# Altium schematic symbol library Timer.SchLib: 67 symbols
Pins are listed as number, name and electrical type; pins without a type are passive.

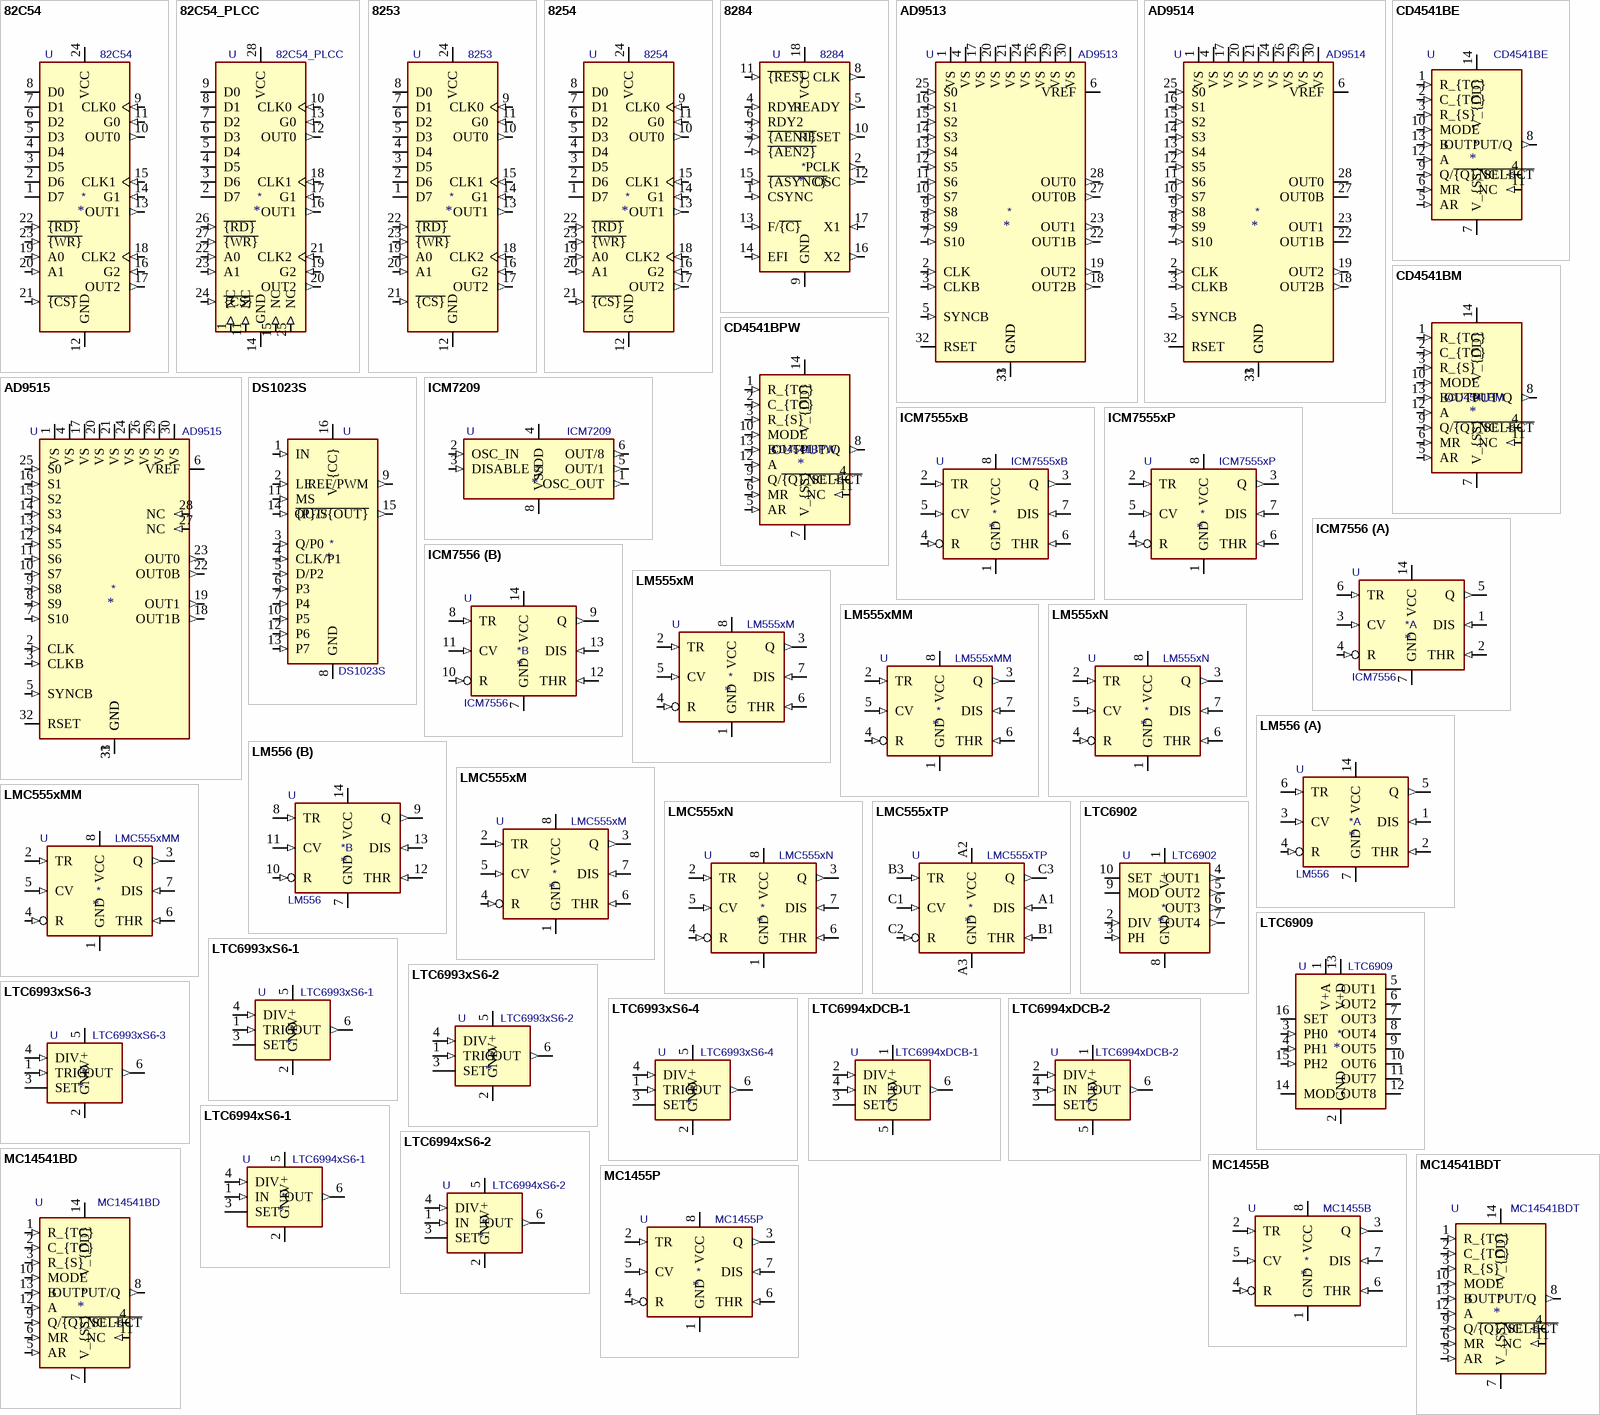
[diagram p0: symbols 82C54 to MC14541BDT]

## 82C54
designator *  value 82C54  Reference: U
CHMOS Programmable Interval Timer, PDIP-24; ki_keywords: Timer Counter; ki_fp_filters: DIP*W15.24mm*; Footprint: Package_DIP:DIP-24_W15.24mm; Datasheet: http://download.intel.com/design/archives/periphrl/docs/23124406.pdf; Description_: CHMOS Programmable Interval Timer, PDIP-24
pins: 1 D7 (io), 2 D6 (io), 3 D5 (io), 4 D4 (io), 5 D3 (io), 6 D2 (io), 7 D1 (io), 8 D0 (io), 9 CLK0 (in), 10 OUT0 (out), 11 G0 (in), 12 GND (power), 13 OUT1 (out), 14 G1 (in), 15 CLK1 (in), 16 G2 (in), 17 OUT2 (out), 18 CLK2 (in), 19 A0 (in), 20 A1 (in), 21 ~{{CS}} (in), 22 ~{{RD}} (in), 23 ~{{WR}} (in), 24 VCC (power)

## 82C54_PLCC
designator *  value 82C54_PLCC  Reference: U
CHMOS Programmable Interval Timer, PLCC-28; ki_keywords: Timer Counter; ki_fp_filters: *PLCC?28*; Footprint: Package_LCC:PLCC-28; Datasheet: http://download.intel.com/design/archives/periphrl/docs/23124406.pdf; Description_: CHMOS Programmable Interval Timer, PLCC-28
pins: 1 NC (in), 2 D7 (io), 3 D6 (io), 4 D5 (io), 5 D4 (io), 6 D3 (io), 7 D2 (io), 8 D1 (io), 9 D0 (io), 10 CLK0 (in), 11 NC (in), 12 OUT0 (out), 13 G0 (in), 14 GND (power), 15 NC (in), 16 OUT1 (out), 17 G1 (in), 18 CLK1 (in), 19 G2 (in), 20 OUT2 (out), 21 CLK2 (in), 22 A0 (in), 23 A1 (in), 24 ~{{CS}} (in), 25 NC (in), 26 ~{{RD}} (in), 27 ~{{WR}} (in), 28 VCC (power)

## 8253
designator *  value 8253  Reference: U
Programmable Interval Timer, PDIP-24; ki_keywords: Timer Counter; ki_fp_filters: DIP*W15.24mm*; Footprint: Package_DIP:DIP-24_W15.24mm; Datasheet: http://www.cpcwiki.eu/imgs/e/e3/8253.pdf; Description_: Programmable Interval Timer, PDIP-24
pins: 1 D7 (io), 2 D6 (io), 3 D5 (io), 4 D4 (io), 5 D3 (io), 6 D2 (io), 7 D1 (io), 8 D0 (io), 9 CLK0 (in), 10 OUT0 (out), 11 G0 (in), 12 GND (power), 13 OUT1 (out), 14 G1 (in), 15 CLK1 (in), 16 G2 (in), 17 OUT2 (out), 18 CLK2 (in), 19 A0 (in), 20 A1 (in), 21 ~{{CS}} (in), 22 ~{{RD}} (in), 23 ~{{WR}} (in), 24 VCC (power)

## 8254
designator *  value 8254  Reference: U
Programmable Interval Timer, PDIP-24; ki_keywords: Timer Counter; ki_fp_filters: DIP*W15.24mm*; Footprint: Package_DIP:DIP-24_W15.24mm; Datasheet: http://www.scs.stanford.edu/10wi-cs140/pintos/specs/8254.pdf; Description_: Programmable Interval Timer, PDIP-24
pins: 1 D7 (io), 2 D6 (io), 3 D5 (io), 4 D4 (io), 5 D3 (io), 6 D2 (io), 7 D1 (io), 8 D0 (io), 9 CLK0 (in), 10 OUT0 (out), 11 G0 (in), 12 GND (power), 13 OUT1 (out), 14 G1 (in), 15 CLK1 (in), 16 G2 (in), 17 OUT2 (out), 18 CLK2 (in), 19 A0 (in), 20 A1 (in), 21 ~{{CS}} (in), 22 ~{{RD}} (in), 23 ~{{WR}} (in), 24 VCC (power)

## 8284
designator *  value 8284  Reference: U
Clock Generator and Driver for i8086/88 Microcontrollers, PDIP-18; ki_fp_filters: DIP*W7.62mm*; Footprint: Package_DIP:DIP-18_W7.62mm; Datasheet: http://www.cpu-galaxy.at/cpu/ram%20rom%20eprom/other_intel_chips/other_intel-Dateien/D8284A_Datasheet.pdf; Description_: Clock Generator and Driver for i8086/88 Microcontrollers, PDIP-18; ki_keywords: Clock Generator
pins: 1 CSYNC (in), 2 PCLK (out), 3 ~{{AEN1}} (in), 4 RDY1 (in), 5 READY (out), 6 RDY2 (in), 7 ~{{AEN2}} (in), 8 CLK (out), 9 GND (power), 10 RESET (out), 11 ~{{RES}} (in), 12 OSC (out), 13 F/~{{C}} (in), 14 EFI (in), 15 ~{{ASYNC}} (in), 16 X2 (out), 17 X1 (in), 18 VCC (power)

## AD9513
designator *  value AD9513  Reference: U
800 MHz, 3 Outputs, Clock Distribution IC, Divider, Delay Adjust, LFCSP-32; ki_keywords: clock distribution LVDS CMOS; ki_fp_filters: LFCSP*1EP*5x5mm*P0.5mm*; Footprint: Package_CSP:LFCSP-32-1EP_5x5mm_P0.5mm_EP3.1x3.1mm; Datasheet: https://www.analog.com/media/en/technical-documentation/data-sheets/AD9513.pdf; Description_: 800 MHz, 3 Outputs, Clock Distribution IC, Divider, Delay Adjust, LFCSP-32
pins: 1 VS (power), 2 CLK (in), 3 CLKB (in), 4 VS (power), 5 SYNCB (in), 6 VREF (power), 7 S10 (in), 8 S9 (in), 9 S8 (in), 10 S7 (in), 11 S6 (in), 12 S5 (in), 13 S4 (in), 14 S3 (in), 15 S2 (in), 16 S1 (in), 17 VS (power), 18 OUT2B (out), 19 OUT2 (out), 20 VS (power), 21 VS (power), 22 OUT1B (out), 23 OUT1 (out), 24 VS (power), 25 S0 (in), 26 VS (power), 27 OUT0B (out), 28 OUT0 (out), 29 VS (power), 30 VS (power), 31 GND (power), 32 RSET, 33 GND

## AD9514
designator *  value AD9514  Reference: U
1.6 GHz, 3 Outputs, Clock Distribution IC, Divider, Delay Adjust, LFCSP-32; ki_keywords: clock distribution LVPECL LVDS CMOS; ki_fp_filters: LFCSP*1EP*5x5mm*P0.5mm*; Footprint: Package_CSP:LFCSP-32-1EP_5x5mm_P0.5mm_EP3.1x3.1mm; Datasheet: https://www.analog.com/media/en/technical-documentation/data-sheets/AD9514.pdf; Description_: 1.6 GHz, 3 Outputs, Clock Distribution IC, Divider, Delay Adjust, LFCSP-32
pins: 1 VS (power), 2 CLK (in), 3 CLKB (in), 4 VS (power), 5 SYNCB (in), 6 VREF (power), 7 S10 (in), 8 S9 (in), 9 S8 (in), 10 S7 (in), 11 S6 (in), 12 S5 (in), 13 S4 (in), 14 S3 (in), 15 S2 (in), 16 S1 (in), 17 VS (power), 18 OUT2B (out), 19 OUT2 (out), 20 VS (power), 21 VS (power), 22 OUT1B (oe), 23 OUT1 (oe), 24 VS (power), 25 S0 (in), 26 VS (power), 27 OUT0B (oe), 28 OUT0 (oe), 29 VS (power), 30 VS (power), 31 GND (power), 32 RSET, 33 GND

## AD9515
designator *  value AD9515  Reference: U
1.6 GHz, 2 Outputs, Clock Distribution IC, Divider, Delay Adjust, LFCSP-32; ki_keywords: clock distribution LVPECL LVDS CMOS; ki_fp_filters: LFCSP*1EP*5x5mm*P0.5mm*; Footprint: Package_CSP:LFCSP-32-1EP_5x5mm_P0.5mm_EP3.1x3.1mm; Datasheet: https://www.analog.com/media/en/technical-documentation/data-sheets/AD9515.pdf; Description_: 1.6 GHz, 2 Outputs, Clock Distribution IC, Divider, Delay Adjust, LFCSP-32
pins: 1 VS (power), 2 CLK (in), 3 CLKB (in), 4 VS (power), 5 SYNCB (in), 6 VREF (power), 7 S10 (in), 8 S9 (in), 9 S8 (in), 10 S7 (in), 11 S6 (in), 12 S5 (in), 13 S4 (in), 14 S3 (in), 15 S2 (in), 16 S1 (in), 17 VS (power), 18 OUT1B (out), 19 OUT1 (out), 20 VS (power), 21 VS (power), 22 OUT0B (out), 23 OUT0 (out), 24 VS (power), 25 S0 (in), 26 VS (power), 27 NC (in), 28 NC (in), 29 VS (power), 30 VS (power), 31 GND (power), 32 RSET, 33 GND

## CD4541BE
designator *  value CD4541BE  Reference: U
20V, Programmable Timer, PDIP-14; ki_keywords: cmos; ki_fp_filters: DIP*W7.62mm*; Footprint: Package_DIP:DIP-14_W7.62mm; Datasheet: https://www.ti.com/lit/ds/symlink/cd4541b.pdf; Description_: 20V, Programmable Timer, PDIP-14
pins: 1 R_{TC} (in), 2 C_{TC} (in), 3 R_{S} (in), 4 NC (in), 5 AR (in), 6 MR (in), 7 V_{SS} (power), 8 OUTPUT/Q (out), 9 Q/~{{Q}_SELECT} (in), 10 MODE (in), 11 NC (in), 12 A (in), 13 B (in), 14 V_{DD} (power)

## CD4541BM
designator *  value CD4541BM  Reference: U
20V, Programmable Timer, SOIC-14; ki_keywords: cmos; ki_fp_filters: SOIC*3.9x8.7mm*P1.27mm*; Footprint: Package_SO:SOIC-14_3.9x8.7mm_P1.27mm; Datasheet: https://www.ti.com/lit/ds/symlink/cd4541b.pdf; Description_: 20V, Programmable Timer, SOIC-14
pins: 1 R_{TC} (in), 2 C_{TC} (in), 3 R_{S} (in), 4 NC (in), 5 AR (in), 6 MR (in), 7 V_{SS} (power), 8 OUTPUT/Q (out), 9 Q/~{{Q}_SELECT} (in), 10 MODE (in), 11 NC (in), 12 A (in), 13 B (in), 14 V_{DD} (power)

## CD4541BPW
designator *  value CD4541BPW  Reference: U
20V, Programmable Timer, TSSOP-14; ki_keywords: cmos; ki_fp_filters: TSSOP*4.4x5mm*P0.65mm*; Footprint: Package_SO:TSSOP-14_4.4x5mm_P0.65mm; Datasheet: https://www.ti.com/lit/ds/symlink/cd4541b.pdf; Description_: 20V, Programmable Timer, TSSOP-14
pins: 1 R_{TC} (in), 2 C_{TC} (in), 3 R_{S} (in), 4 NC (in), 5 AR (in), 6 MR (in), 7 V_{SS} (power), 8 OUTPUT/Q (out), 9 Q/~{{Q}_SELECT} (in), 10 MODE (in), 11 NC (in), 12 A (in), 13 B (in), 14 V_{DD} (power)

## DS1023S
designator *  value DS1023S  Reference: U
8-bit Programamble Delay Line / Timing Element, 5V supply, SOIC-16W package.; ki_fp_filters: SOIC*W?7.5x10.3mm*P1.27mm*; Footprint: Package_SO:SOIC-16W_7.5x10.3mm_P1.27mm; Datasheet: https://www.analog.com/media/en/technical-documentation/data-sheets/DS1023.pdf; Description_: 8-bit Programamble Delay Line / Timing Element, 5V supply, SOIC-16W package.; ki_keywords: Delay Line
pins: 1 IN (in), 2 LE (in), 3 Q/P0 (in), 4 CLK/P1 (in), 5 D/P2 (in), 6 P3 (in), 7 P4 (in), 8 GND (power), 9 REF/PWM (out), 10 P5 (in), 11 MS (in), 12 P6 (in), 13 P7 (in), 14 ~{{P}/S} (in), 15 OUT/~{{OUT}} (out), 16 V_{CC} (power)

## ICM7209
designator *  value ICM7209  Reference: U
Timebase generator, DIP-8; ki_fp_filters: DIP*W7.62mm*; Footprint: Package_DIP:DIP-8_W7.62mm; Datasheet: http://pdf.datasheetcatalog.com/datasheets/320/500974_DS.pdf; Description_: Timebase generator, DIP-8; ki_keywords: Timebase generator
pins: 1 OSC_OUT (out), 2 OSC_IN (in), 3 DISABLE (in), 4 VDD (power), 5 OUT/1 (out), 6 OUT/8 (out), 8 VSS (power)

## ICM7555xB
designator *  value ICM7555xB  Reference: U
CMOS General Purpose Timer, 555 compatible, SOIC-8; ki_keywords: single timer 555; ki_fp_filters: SOIC*3.9x4.9mm*P1.27mm*; Footprint: Package_SO:SOIC-8_3.9x4.9mm_P1.27mm; Datasheet: http://www.intersil.com/content/dam/Intersil/documents/icm7/icm7555-56.pdf; Description_: CMOS General Purpose Timer, 555 compatible, SOIC-8
pins: 1 GND (power), 2 TR (in), 3 Q (out), 4 R (in), 5 CV (in), 6 THR (in), 7 DIS (in), 8 VCC (power)

## ICM7555xP
designator *  value ICM7555xP  Reference: U
CMOS General Purpose Timer, 555 compatible, PDIP-8; ki_keywords: single timer 555; ki_fp_filters: DIP*W7.62mm*; Footprint: Package_DIP:DIP-8_W7.62mm; Datasheet: http://www.intersil.com/content/dam/Intersil/documents/icm7/icm7555-56.pdf; Description_: CMOS General Purpose Timer, 555 compatible, PDIP-8
pins: 1 GND (power), 2 TR (in), 3 Q (out), 4 R (in), 5 CV (in), 6 THR (in), 7 DIS (in), 8 VCC (power)

## ICM7556
designator *  value ICM7556  Reference: U
Dual CMOS General Purpose Timer, DIP-14/SOIC-14; ki_keywords: dual timer 556; ki_fp_filters: DIP*W7.62mm* TSSOP*5.3x6.2mm*P0.65mm* SOIC*3.9x8.7mm*P1.27mm*; Datasheet: http://www.intersil.com/content/dam/Intersil/documents/icm7/icm7555-56.pdf; Description_: Dual CMOS General Purpose Timer, DIP-14/SOIC-14
part A pins: 1 DIS (in), 2 THR (in), 3 CV (in), 4 R (in), 5 Q (out), 6 TR (in), 7 GND (power), 14 VCC (power)
part B pins: 7 GND (power), 8 TR (in), 9 Q (out), 10 R (in), 11 CV (in), 12 THR (in), 13 DIS (in), 14 VCC (power)

## LM555xM
designator *  value LM555xM  Reference: U
Timer, 555 compatible, SOIC-8; ki_keywords: single timer 555; ki_fp_filters: SOIC*3.9x4.9mm*P1.27mm*; Footprint: Package_SO:SOIC-8_3.9x4.9mm_P1.27mm; Datasheet: http://www.ti.com/lit/ds/symlink/lm555.pdf; Description_: Timer, 555 compatible, SOIC-8
pins: 1 GND (power), 2 TR (in), 3 Q (out), 4 R (in), 5 CV (in), 6 THR (in), 7 DIS (in), 8 VCC (power)

## LM555xMM
designator *  value LM555xMM  Reference: U
Precision Timers, 555 compatible, VSSOP-8; ki_keywords: single timer 555; ki_fp_filters: *VSSOP*3x3mm*P0.65mm*; Footprint: Package_SO:VSSOP-8_3x3mm_P0.65mm; Datasheet: http://www.ti.com/lit/ds/symlink/lm555.pdf; Description_: Precision Timers, 555 compatible, VSSOP-8
pins: 1 GND (power), 2 TR (in), 3 Q (out), 4 R (in), 5 CV (in), 6 THR (in), 7 DIS (in), 8 VCC (power)

## LM555xN
designator *  value LM555xN  Reference: U
Timer, 555 compatible, PDIP-8; ki_keywords: single timer 555; ki_fp_filters: DIP*W7.62mm*; Footprint: Package_DIP:DIP-8_W7.62mm; Datasheet: http://www.ti.com/lit/ds/symlink/lm555.pdf; Description_: Timer, 555 compatible, PDIP-8
pins: 1 GND (power), 2 TR (in), 3 Q (out), 4 R (in), 5 CV (in), 6 THR (in), 7 DIS (in), 8 VCC (power)

## LM556
designator *  value LM556  Reference: U
Dual Timer, DIP-14/SOIC-14; ki_fp_filters: DIP*W7.62mm* TSSOP*5.3x6.2mm*P0.65mm* SOIC*3.9x8.7mm*P1.27mm*; Datasheet: http://www.ti.com/lit/ds/symlink/lm556.pdf; Description_: Dual Timer, DIP-14/SOIC-14; ki_keywords: dual timer
part A pins: 1 DIS (in), 2 THR (in), 3 CV (in), 4 R (in), 5 Q (out), 6 TR (in), 7 GND (power), 14 VCC (power)
part B pins: 7 GND (power), 8 TR (in), 9 Q (out), 10 R (in), 11 CV (in), 12 THR (in), 13 DIS (in), 14 VCC (power)

## LMC555xM
designator *  value LMC555xM  Reference: U
CMOS Timer, 555 compatible, SOIC-8; ki_keywords: single timer 555; ki_fp_filters: SOIC*3.9x4.9mm*P1.27mm*; Footprint: Package_SO:SOIC-8_3.9x4.9mm_P1.27mm; Datasheet: http://www.ti.com/lit/ds/symlink/lmc555.pdf; Description_: CMOS Timer, 555 compatible, SOIC-8
pins: 1 GND (power), 2 TR (in), 3 Q (out), 4 R (in), 5 CV (in), 6 THR (in), 7 DIS (in), 8 VCC (power)

## LMC555xMM
designator *  value LMC555xMM  Reference: U
CMOS Timer, 555 compatible, VSSOP-8; ki_keywords: single timer 555; ki_fp_filters: *VSSOP*3x3mm*P0.65mm*; Footprint: Package_SO:VSSOP-8_3x3mm_P0.65mm; Datasheet: http://www.ti.com/lit/ds/symlink/lmc555.pdf; Description_: CMOS Timer, 555 compatible, VSSOP-8
pins: 1 GND (power), 2 TR (in), 3 Q (out), 4 R (in), 5 CV (in), 6 THR (in), 7 DIS (in), 8 VCC (power)

## LMC555xN
designator *  value LMC555xN  Reference: U
CMOS Timer, 555 compatible, PDIP-8; ki_keywords: single timer 555; ki_fp_filters: DIP*W7.62mm*; Footprint: Package_DIP:DIP-8_W7.62mm; Datasheet: http://www.ti.com/lit/ds/symlink/lmc555.pdf; Description_: CMOS Timer, 555 compatible, PDIP-8
pins: 1 GND (power), 2 TR (in), 3 Q (out), 4 R (in), 5 CV (in), 6 THR (in), 7 DIS (in), 8 VCC (power)

## LMC555xTP
designator *  value LMC555xTP  Reference: U
CMOS Timer, DSBGA-8; ki_keywords: single timer 555; ki_fp_filters: Texas*DSBGA*P0.5mm*; Footprint: Package_BGA:Texas_DSBGA-8_1.43x1.41mm_Layout3x3_P0.5mm; Datasheet: http://www.ti.com/lit/ds/symlink/lmc555.pdf; Description_: CMOS Timer, DSBGA-8
pins: A1 DIS (in), A2 VCC (power), A3 GND (power), B1 THR (in), B3 TR (in), C1 CV (in), C2 R (in), C3 Q (out)

## LTC6902
designator *  value LTC6902  Reference: U
Multiphase oscillator, spread spectrum frequency modulation, MSOP-10; ki_keywords: clock generator dual triple quad signal; ki_fp_filters: MSOP*3x3mm*P0.5mm*; Footprint: Package_SO:MSOP-10_3x3mm_P0.5mm; Datasheet: https://www.analog.com/media/en/technical-documentation/data-sheets/6902f.pdf; Description_: Multiphase oscillator, spread spectrum frequency modulation, MSOP-10
pins: 1 V+ (power), 2 DIV (in), 3 PH (in), 4 OUT1 (out), 5 OUT2 (out), 6 OUT3 (out), 7 OUT4 (out), 8 GND (power), 9 MOD, 10 SET

## LTC6909
designator *  value LTC6909  Reference: U
Multiphase oscillator, spread spectrum frequency modulation, MSOP-16; ki_keywords: clock generator signal; ki_fp_filters: MSOP*3x4.039mm*P0.5mm*; Footprint: Package_SO:MSOP-16_3x4.039mm_P0.5mm; Datasheet: https://www.analog.com/media/en/technical-documentation/data-sheets/6909fa.pdf; Description_: Multiphase oscillator, spread spectrum frequency modulation, MSOP-16
pins: 1 V+A (power), 2 GND (power), 3 PH0 (in), 4 PH1 (in), 5 OUT1 (hiz), 6 OUT2 (hiz), 7 OUT3 (hiz), 8 OUT4 (hiz), 9 OUT5 (hiz), 10 OUT6 (hiz), 11 OUT7 (hiz), 12 OUT8 (hiz), 13 V+D (power), 14 MOD, 15 PH2 (in), 16 SET

## LTC6993xS6-1
designator *  value LTC6993xS6-1  Reference: U
TimerBlox Monostable Pulse Generator (One Shot), Rising-edge input, non-retriggerable, TSOT-23-6; ki_keywords: Timer TimerBlox monostable pulse; ki_fp_filters: TSOT*23*; Footprint: Package_TO_SOT_SMD:TSOT-23-6; Datasheet: https://www.analog.com/media/en/technical-documentation/data-sheets/69931234fc.pdf; Description_: TimerBlox Monostable Pulse Generator (One Shot), Rising-edge input, non-retriggerable, TSOT-23-6
pins: 1 TRIG (in), 2 GND (power), 3 SET, 4 DIV (in), 5 V+ (power), 6 OUT (out)

## LTC6993xS6-2
designator *  value LTC6993xS6-2  Reference: U
TimerBlox Monostable Pulse Generator (One Shot), Rising-edge input, retriggerable, TSOT-23-6; ki_keywords: Timer TimerBlox monostable pulse; ki_fp_filters: TSOT*23*; Footprint: Package_TO_SOT_SMD:TSOT-23-6; Datasheet: https://www.analog.com/media/en/technical-documentation/data-sheets/69931234fc.pdf; Description_: TimerBlox Monostable Pulse Generator (One Shot), Rising-edge input, retriggerable, TSOT-23-6
pins: 1 TRIG (in), 2 GND (power), 3 SET, 4 DIV (in), 5 V+ (power), 6 OUT (out)

## LTC6993xS6-3
designator *  value LTC6993xS6-3  Reference: U
TimerBlox Monostable Pulse Generator (One Shot), Falling-edge input, non-retriggerable, TSOT-23-6; ki_keywords: Timer TimerBlox monostable pulse; ki_fp_filters: TSOT*23*; Footprint: Package_TO_SOT_SMD:TSOT-23-6; Datasheet: https://www.analog.com/media/en/technical-documentation/data-sheets/69931234fc.pdf; Description_: TimerBlox Monostable Pulse Generator (One Shot), Falling-edge input, non-retriggerable, TSOT-23-6
pins: 1 TRIG (in), 2 GND (power), 3 SET, 4 DIV (in), 5 V+ (power), 6 OUT (out)

## LTC6993xS6-4
designator *  value LTC6993xS6-4  Reference: U
TimerBlox Monostable Pulse Generator (One Shot), Falling-edge input, retriggerable, TSOT-23-6; ki_keywords: Timer TimerBlox monostable pulse; ki_fp_filters: TSOT*23*; Footprint: Package_TO_SOT_SMD:TSOT-23-6; Datasheet: https://www.analog.com/media/en/technical-documentation/data-sheets/69931234fc.pdf; Description_: TimerBlox Monostable Pulse Generator (One Shot), Falling-edge input, retriggerable, TSOT-23-6
pins: 1 TRIG (in), 2 GND (power), 3 SET, 4 DIV (in), 5 V+ (power), 6 OUT (out)

## LTC6994xDCB-1
designator *  value LTC6994xDCB-1  Reference: U
TimerBlox Delay Block, Programmable, Noise Discriminator, Rising or Falling Edge, DFN-6; ki_keywords: TimerBlox delay block noise discriminator; ki_fp_filters: DFN*1EP*3x2mm*P0.5mm*; Footprint: Package_DFN_QFN:DFN-6-1EP_3x2mm_P0.5mm_EP1.65x1.35mm; Datasheet: https://www.analog.com/media/en/technical-documentation/data-sheets/699412fb.pdf; Description_: TimerBlox Delay Block, Programmable, Noise Discriminator, Rising or Falling Edge, DFN-6
pins: 1 V+ (power), 2 DIV (in), 3 SET, 4 IN (in), 5 GND (power), 6 OUT (out)

## LTC6994xDCB-2
designator *  value LTC6994xDCB-2  Reference: U
TimerBlox Debouncer, Programmable, Noise Discriminator, Rising and Falling Edges, DFN-6; ki_keywords: TimerBlox debouncer noise discriminator; ki_fp_filters: DFN*1EP*3x2mm*P0.5mm*; Footprint: Package_DFN_QFN:DFN-6-1EP_3x2mm_P0.5mm_EP1.65x1.35mm; Datasheet: https://www.analog.com/media/en/technical-documentation/data-sheets/699412fb.pdf; Description_: TimerBlox Debouncer, Programmable, Noise Discriminator, Rising and Falling Edges, DFN-6
pins: 1 V+ (power), 2 DIV (in), 3 SET, 4 IN (in), 5 GND (power), 6 OUT (out)

## LTC6994xS6-1
designator *  value LTC6994xS6-1  Reference: U
TimerBlox Delay Block, Programmable, Noise Discriminator, Rising or Falling Edge, TSOT-23-6; ki_keywords: TimerBlox delay block noise discriminator; ki_fp_filters: TSOT*23*; Footprint: Package_TO_SOT_SMD:TSOT-23-6; Datasheet: https://www.analog.com/media/en/technical-documentation/data-sheets/699412fb.pdf; Description_: TimerBlox Delay Block, Programmable, Noise Discriminator, Rising or Falling Edge, TSOT-23-6
pins: 1 IN (in), 2 GND (power), 3 SET, 4 DIV (in), 5 V+ (power), 6 OUT (out)

## LTC6994xS6-2
designator *  value LTC6994xS6-2  Reference: U
TimerBlox Debouncer, Programmable, Noise Discriminator, Rising and Falling Edges, TSOT-23-6; ki_keywords: TimerBlox debouncer noise discriminator; ki_fp_filters: TSOT*23*; Footprint: Package_TO_SOT_SMD:TSOT-23-6; Datasheet: https://www.analog.com/media/en/technical-documentation/data-sheets/699412fb.pdf; Description_: TimerBlox Debouncer, Programmable, Noise Discriminator, Rising and Falling Edges, TSOT-23-6
pins: 1 IN (in), 2 GND (power), 3 SET, 4 DIV (in), 5 V+ (power), 6 OUT (out)

## MC1455B
designator *  value MC1455B  Reference: U
Timer, 555 compatible, SOIC-8; ki_keywords: single timer 555; ki_fp_filters: SOIC*3.9x4.9mm*P1.27mm*; Footprint: Package_SO:SOIC-8_3.9x4.9mm_P1.27mm; Datasheet: https://www.onsemi.com/pub/Collateral/MC1455-D.PDF; Description_: Timer, 555 compatible, SOIC-8
pins: 1 GND (power), 2 TR (in), 3 Q (out), 4 R (in), 5 CV (in), 6 THR (in), 7 DIS (in), 8 VCC (power)

## MC1455P
designator *  value MC1455P  Reference: U
Timer, 555 compatible, PDIP-8; ki_keywords: single timer 555; ki_fp_filters: DIP*W7.62mm*; Footprint: Package_DIP:DIP-8_W7.62mm; Datasheet: https://www.onsemi.com/pub/Collateral/MC1455-D.PDF; Description_: Timer, 555 compatible, PDIP-8
pins: 1 GND (power), 2 TR (in), 3 Q (out), 4 R (in), 5 CV (in), 6 THR (in), 7 DIS (in), 8 VCC (power)

## MC14541BD
designator *  value MC14541BD  Reference: U
18V, Programmable Timer, SOIC-14; ki_keywords: cmos; ki_fp_filters: SOIC*3.9x8.7mm*P1.27mm*; Footprint: Package_SO:SOIC-14_3.9x8.7mm_P1.27mm; Datasheet: https://www.onsemi.com/pdf/datasheet/mc14541b-d.pdf; Description_: 18V, Programmable Timer, SOIC-14
pins: 1 R_{TC} (in), 2 C_{TC} (in), 3 R_{S} (in), 4 NC (in), 5 AR (in), 6 MR (in), 7 V_{SS} (power), 8 OUTPUT/Q (out), 9 Q/~{{Q}_SELECT} (in), 10 MODE (in), 11 NC (in), 12 A (in), 13 B (in), 14 V_{DD} (power)

## MC14541BDT
designator *  value MC14541BDT  Reference: U
18V, Programmable Timer, TSSOP-14; ki_keywords: cmos; ki_fp_filters: TSSOP*4.4x5mm*P0.65mm*; Footprint: Package_SO:TSSOP-14_4.4x5mm_P0.65mm; Datasheet: https://www.onsemi.com/pdf/datasheet/mc14541b-d.pdf; Description_: 18V, Programmable Timer, TSSOP-14
pins: 1 R_{TC} (in), 2 C_{TC} (in), 3 R_{S} (in), 4 NC (in), 5 AR (in), 6 MR (in), 7 V_{SS} (power), 8 OUTPUT/Q (out), 9 Q/~{{Q}_SELECT} (in), 10 MODE (in), 11 NC (in), 12 A (in), 13 B (in), 14 V_{DD} (power)

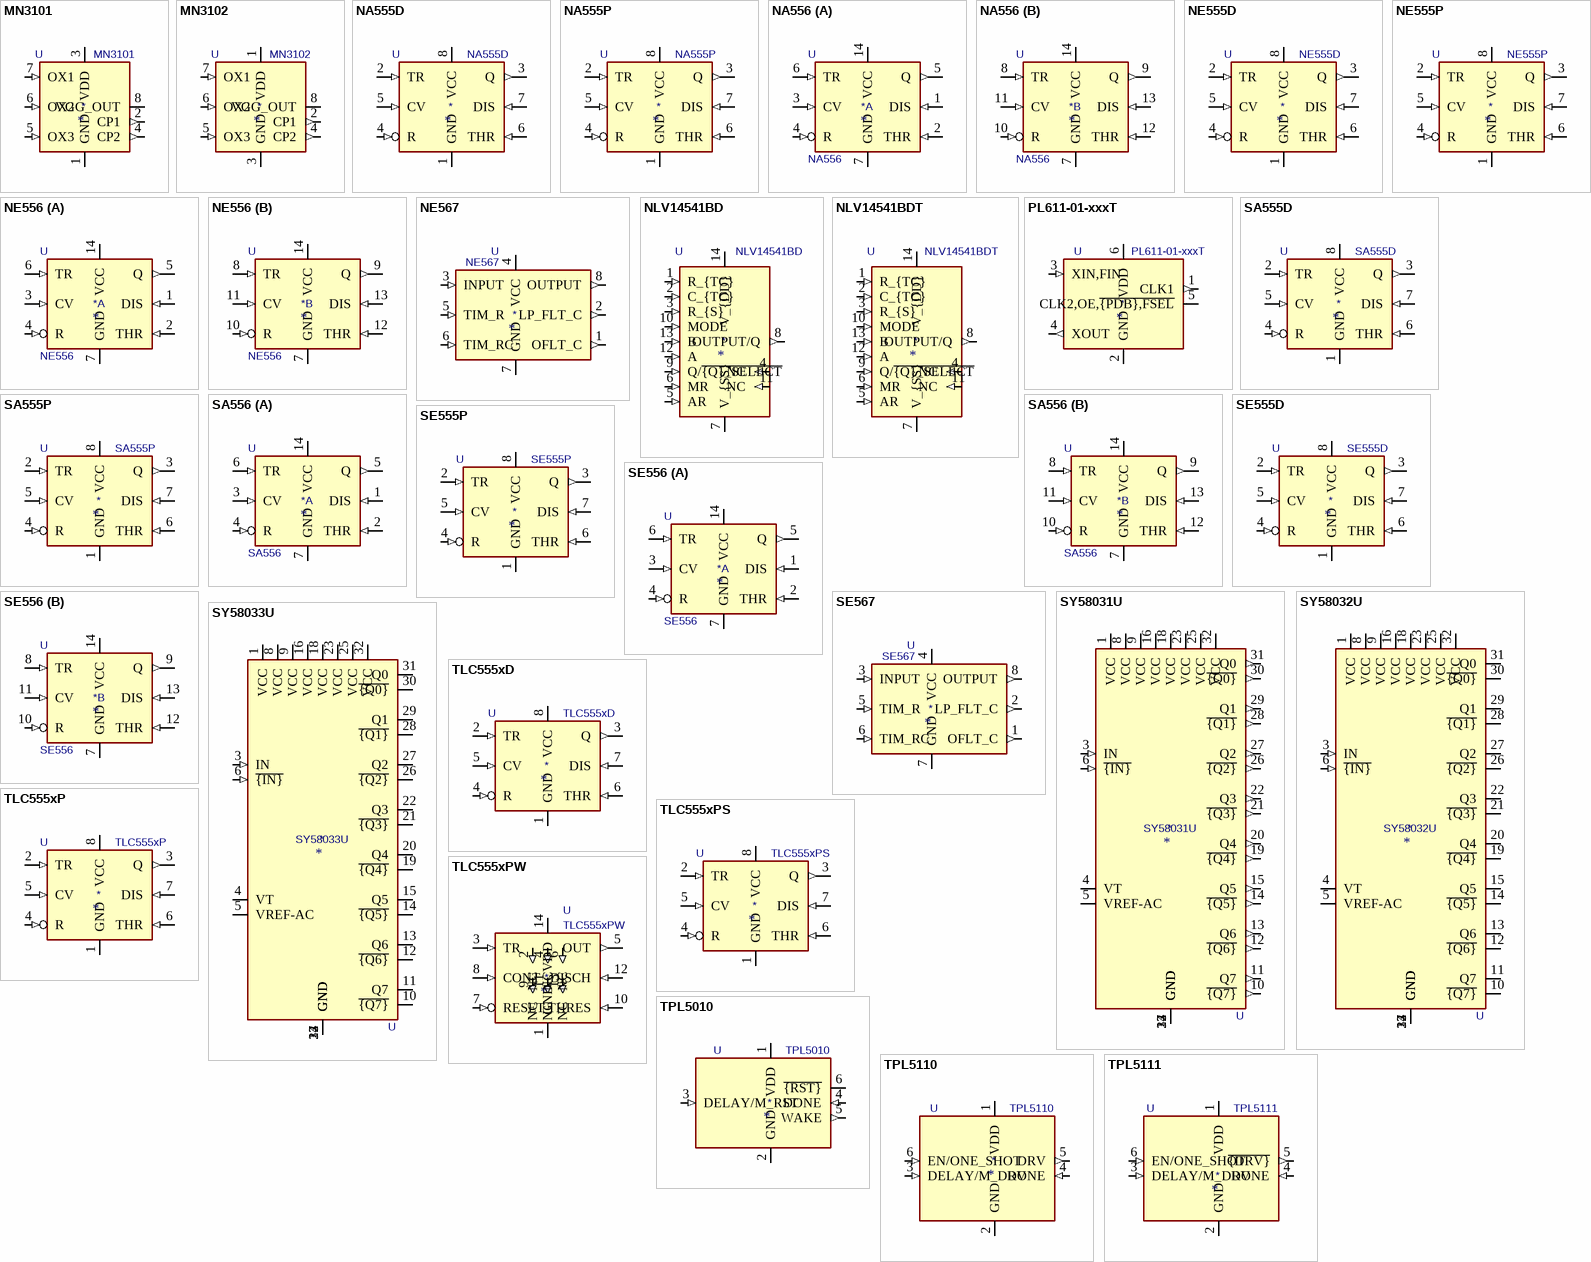
[diagram p1: symbols MN3101 to TPL5111]

## MN3101
designator *  value MN3101  Reference: U
Clock Generator Driver/Driver for MN3000 Series BBD (bucket brigade device), -8V to -16V, DIP-8; ki_keywords: Matsushita Panasonic BBD CMOS; ki_fp_filters: DIP*W7.62mm*; Footprint: Package_DIP:DIP-8_W7.62mm; Datasheet: http://www.experimentalistsanonymous.com/diy/Datasheets/MN3101.pdf; Description_: Clock Generator Driver/Driver for MN3000 Series BBD (bucket brigade device), -8V to -16V, DIP-8
pins: 1 GND (power), 2 CP1 (out), 3 VDD (power), 4 CP2 (out), 5 OX3 (in), 6 OX2 (in), 7 OX1 (in), 8 VGG_OUT (power)

## MN3102
designator *  value MN3102  Reference: U
Clock Generator Driver/Driver for MN3000 Series BBD (bucket brigade device), 4V to 10V, DIP-8; ki_keywords: Matsushita Panasonic BBD CMOS; ki_fp_filters: DIP*W7.62mm*; Footprint: Package_DIP:DIP-8_W7.62mm; Datasheet: http://www.experimentalistsanonymous.com/diy/Datasheets/MN3102.pdf; Description_: Clock Generator Driver/Driver for MN3000 Series BBD (bucket brigade device), 4V to 10V, DIP-8
pins: 1 VDD (power), 2 CP1 (out), 3 GND (power), 4 CP2 (out), 5 OX3 (in), 6 OX2 (in), 7 OX1 (in), 8 VGG_OUT (power)

## NA555D
designator *  value NA555D  Reference: U
Precision Timers, 555 compatible, SOIC-8; ki_keywords: single timer 555; ki_fp_filters: SOIC*3.9x4.9mm*P1.27mm*; Footprint: Package_SO:SOIC-8_3.9x4.9mm_P1.27mm; Datasheet: http://www.ti.com/lit/ds/symlink/ne555.pdf; Description_: Precision Timers, 555 compatible, SOIC-8
pins: 1 GND (power), 2 TR (in), 3 Q (out), 4 R (in), 5 CV (in), 6 THR (in), 7 DIS (in), 8 VCC (power)

## NA555P
designator *  value NA555P  Reference: U
Precision Timers, 555 compatible, PDIP-8; ki_keywords: single timer 555; ki_fp_filters: DIP*W7.62mm*; Footprint: Package_DIP:DIP-8_W7.62mm; Datasheet: http://www.ti.com/lit/ds/symlink/ne555.pdf; Description_: Precision Timers, 555 compatible, PDIP-8
pins: 1 GND (power), 2 TR (in), 3 Q (out), 4 R (in), 5 CV (in), 6 THR (in), 7 DIS (in), 8 VCC (power)

## NA556
designator *  value NA556  Reference: U
Dual Precision Timers, DIP-14/SOIC-14/SSOP-14; ki_keywords: dual timer; ki_fp_filters: DIP*W7.62mm* TSSOP*5.3x6.2mm*P0.65mm* SOIC*3.9x8.7mm*P1.27mm*; Datasheet: http://www.ti.com/lit/ds/symlink/se556.pdf; Description_: Dual Precision Timers, DIP-14/SOIC-14/SSOP-14
part A pins: 1 DIS (in), 2 THR (in), 3 CV (in), 4 R (in), 5 Q (out), 6 TR (in), 7 GND (power), 14 VCC (power)
part B pins: 7 GND (power), 8 TR (in), 9 Q (out), 10 R (in), 11 CV (in), 12 THR (in), 13 DIS (in), 14 VCC (power)

## NE555D
designator *  value NE555D  Reference: U
Precision Timers, 555 compatible, SOIC-8; ki_keywords: single timer 555; ki_fp_filters: SOIC*3.9x4.9mm*P1.27mm*; Footprint: Package_SO:SOIC-8_3.9x4.9mm_P1.27mm; Datasheet: http://www.ti.com/lit/ds/symlink/ne555.pdf; Description_: Precision Timers, 555 compatible, SOIC-8
pins: 1 GND (power), 2 TR (in), 3 Q (out), 4 R (in), 5 CV (in), 6 THR (in), 7 DIS (in), 8 VCC (power)

## NE555P
designator *  value NE555P  Reference: U
Precision Timers, 555 compatible,  PDIP-8; ki_keywords: single timer 555; ki_fp_filters: DIP*W7.62mm*; Footprint: Package_DIP:DIP-8_W7.62mm; Datasheet: http://www.ti.com/lit/ds/symlink/ne555.pdf; Description_: Precision Timers, 555 compatible,  PDIP-8
pins: 1 GND (power), 2 TR (in), 3 Q (out), 4 R (in), 5 CV (in), 6 THR (in), 7 DIS (in), 8 VCC (power)

## NE556
designator *  value NE556  Reference: U
Dual Precision Timers, DIP-14/SOIC-14; ki_keywords: dual timer; ki_fp_filters: DIP*W7.62mm* TSSOP*5.3x6.2mm*P0.65mm* SOIC*3.9x8.7mm*P1.27mm*; Datasheet: http://www.ti.com/lit/ds/symlink/ne556.pdf; Description_: Dual Precision Timers, DIP-14/SOIC-14
part A pins: 1 DIS (in), 2 THR (in), 3 CV (in), 4 R (in), 5 Q (out), 6 TR (in), 7 GND (power), 14 VCC (power)
part B pins: 7 GND (power), 8 TR (in), 9 Q (out), 10 R (in), 11 CV (in), 12 THR (in), 13 DIS (in), 14 VCC (power)

## NE567
designator *  value NE567  Reference: U
Tone Decoder/Phase-Locked Loop, DIP-8/SOIC-8; ki_keywords: tone decoder PLL; ki_fp_filters: DIP*W7.62mm* SOIC*3.9x4.9mm*P1.27mm*; Datasheet: http://www.ti.com/lit/ds/symlink/lm567.pdf; Description_: Tone Decoder/Phase-Locked Loop, DIP-8/SOIC-8
pins: 1 OFLT_C (out), 2 LP_FLT_C (out), 3 INPUT (in), 4 VCC (power), 5 TIM_R (in), 6 TIM_RC (in), 7 GND (power), 8 OUTPUT (out)

## NLV14541BD
designator *  value NLV14541BD  Reference: U
18V, Programmable Timer, AEC Q100, SOIC-14; ki_keywords: cmos; ki_fp_filters: SOIC*3.9x8.7mm*P1.27mm*; Footprint: Package_SO:SOIC-14_3.9x8.7mm_P1.27mm; Datasheet: https://www.onsemi.com/pdf/datasheet/mc14541b-d.pdf; Description_: 18V, Programmable Timer, AEC Q100, SOIC-14
pins: 1 R_{TC} (in), 2 C_{TC} (in), 3 R_{S} (in), 4 NC (in), 5 AR (in), 6 MR (in), 7 V_{SS} (power), 8 OUTPUT/Q (out), 9 Q/~{{Q}_SELECT} (in), 10 MODE (in), 11 NC (in), 12 A (in), 13 B (in), 14 V_{DD} (power)

## NLV14541BDT
designator *  value NLV14541BDT  Reference: U
18V, Programmable Timer, AEC Q100, TSSOP-14; ki_keywords: cmos; ki_fp_filters: TSSOP*4.4x5mm*P0.65mm*; Footprint: Package_SO:TSSOP-14_4.4x5mm_P0.65mm; Datasheet: https://www.onsemi.com/pdf/datasheet/mc14541b-d.pdf; Description_: 18V, Programmable Timer, AEC Q100, TSSOP-14
pins: 1 R_{TC} (in), 2 C_{TC} (in), 3 R_{S} (in), 4 NC (in), 5 AR (in), 6 MR (in), 7 V_{SS} (power), 8 OUTPUT/Q (out), 9 Q/~{{Q}_SELECT} (in), 10 MODE (in), 11 NC (in), 12 A (in), 13 B (in), 14 V_{DD} (power)

## PL611-01-xxxT
designator *  value PL611-01-xxxT  Reference: U
Programmable Clock, Dual Programmable Clock Outputs, Up To 200MHz, SOT-23-6; ki_keywords: clock generator dual programmable; ki_fp_filters: SOT?23*; Footprint: Package_TO_SOT_SMD:SOT-23-6; Datasheet: http://ww1.microchip.com/downloads/en/DeviceDoc/PL611-01.pdf; Description_: Programmable Clock, Dual Programmable Clock Outputs, Up To 200MHz, SOT-23-6
pins: 1 CLK1 (out), 2 GND (power), 3 XIN,FIN (in), 4 XOUT (out), 5 CLK2,OE,~{{PDB},FSEL} (io), 6 VDD (power)

## SA555D
designator *  value SA555D  Reference: U
Precision Timers, 555 compatible, SOIC-8; ki_keywords: single timer 555; ki_fp_filters: SOIC*3.9x4.9mm*P1.27mm*; Footprint: Package_SO:SOIC-8_3.9x4.9mm_P1.27mm; Datasheet: http://www.ti.com/lit/ds/symlink/ne555.pdf; Description_: Precision Timers, 555 compatible, SOIC-8
pins: 1 GND (power), 2 TR (in), 3 Q (out), 4 R (in), 5 CV (in), 6 THR (in), 7 DIS (in), 8 VCC (power)

## SA555P
designator *  value SA555P  Reference: U
Precision Timers, 555 compatible, PDIP-8; ki_keywords: single timer 555; ki_fp_filters: DIP*W7.62mm*; Footprint: Package_DIP:DIP-8_W7.62mm; Datasheet: http://www.ti.com/lit/ds/symlink/ne555.pdf; Description_: Precision Timers, 555 compatible, PDIP-8
pins: 1 GND (power), 2 TR (in), 3 Q (out), 4 R (in), 5 CV (in), 6 THR (in), 7 DIS (in), 8 VCC (power)

## SA556
designator *  value SA556  Reference: U
Dual Precision Timers, DIP-14/SOIC-14; ki_keywords: dual timer; ki_fp_filters: DIP*W7.62mm* TSSOP*5.3x6.2mm*P0.65mm* SOIC*3.9x8.7mm*P1.27mm*; Datasheet: http://www.ti.com/lit/ds/symlink/ne556.pdf; Description_: Dual Precision Timers, DIP-14/SOIC-14
part A pins: 1 DIS (in), 2 THR (in), 3 CV (in), 4 R (in), 5 Q (out), 6 TR (in), 7 GND (power), 14 VCC (power)
part B pins: 7 GND (power), 8 TR (in), 9 Q (out), 10 R (in), 11 CV (in), 12 THR (in), 13 DIS (in), 14 VCC (power)

## SE555D
designator *  value SE555D  Reference: U
Precision Timers, 555 compatible, SOIC-8; ki_keywords: single timer 555; ki_fp_filters: SOIC*3.9x4.9mm*P1.27mm*; Footprint: Package_SO:SOIC-8_3.9x4.9mm_P1.27mm; Datasheet: http://www.ti.com/lit/ds/symlink/ne555.pdf; Description_: Precision Timers, 555 compatible, SOIC-8
pins: 1 GND (power), 2 TR (in), 3 Q (out), 4 R (in), 5 CV (in), 6 THR (in), 7 DIS (in), 8 VCC (power)

## SE555P
designator *  value SE555P  Reference: U
Precision Timers, 555 compatible, PDIP-8; ki_keywords: single timer 555; ki_fp_filters: DIP*W7.62mm*; Footprint: Package_DIP:DIP-8_W7.62mm; Datasheet: http://www.ti.com/lit/ds/symlink/ne555.pdf; Description_: Precision Timers, 555 compatible, PDIP-8
pins: 1 GND (power), 2 TR (in), 3 Q (out), 4 R (in), 5 CV (in), 6 THR (in), 7 DIS (in), 8 VCC (power)

## SE556
designator *  value SE556  Reference: U
Dual Precision Timers, DIP-14/SOIC-14; ki_keywords: dual timer; ki_fp_filters: DIP*W7.62mm* TSSOP*5.3x6.2mm*P0.65mm* SOIC*3.9x8.7mm*P1.27mm*; Datasheet: http://www.ti.com/lit/ds/symlink/ne556.pdf; Description_: Dual Precision Timers, DIP-14/SOIC-14
part A pins: 1 DIS (in), 2 THR (in), 3 CV (in), 4 R (in), 5 Q (out), 6 TR (in), 7 GND (power), 14 VCC (power)
part B pins: 7 GND (power), 8 TR (in), 9 Q (out), 10 R (in), 11 CV (in), 12 THR (in), 13 DIS (in), 14 VCC (power)

## SE567
designator *  value SE567  Reference: U
Tone Decoder/Phase-Locked Loop, DIP-8/SOIC-8; ki_keywords: tone decoder PLL; ki_fp_filters: DIP*W7.62mm* SOIC*3.9x4.9mm*P1.27mm*; Datasheet: http://www.ti.com/lit/ds/symlink/lm567.pdf; Description_: Tone Decoder/Phase-Locked Loop, DIP-8/SOIC-8
pins: 1 OFLT_C (out), 2 LP_FLT_C (out), 3 INPUT (in), 4 VCC (power), 5 TIM_R (in), 6 TIM_RC (in), 7 GND (power), 8 OUTPUT (out)

## SY58031U
designator *  value SY58031U  Reference: U
1:8 CML Fanout Buffer 75fsRMS, QFN-32; ki_keywords: CML 2.5V/3.3V differential LVPECL LVDS; ki_fp_filters: QFN*1EP*5x5mm*P0.5mm*; Footprint: Package_DFN_QFN:QFN-32-1EP_5x5mm_P0.5mm_EP3.1x3.1mm_ThermalVias; Datasheet: http://ww1.microchip.com/downloads/en/DeviceDoc/sy58031u.pdf; Description_: 1:8 CML Fanout Buffer 75fsRMS, QFN-32
pins: 1 VCC (power), 2 GND (power), 3 IN (in), 4 VT, 5 VREF-AC, 6 ~{{IN}} (in), 7 GND, 8 VCC (power), 9 VCC (power), 10 ~{{Q7}} (out), 11 Q7 (out), 12 ~{{Q6}} (out), 13 Q6 (out), 14 ~{{Q5}} (out), 15 Q5 (out), 16 VCC (power), 17 GND, 18 VCC (power), 19 ~{{Q4}} (out), 20 Q4 (out), 21 ~{{Q3}} (out), 22 Q3 (out), 23 VCC (power), 24 GND, 25 VCC (power), 26 ~{{Q2}} (out), 27 Q2 (out), 28 ~{{Q1}} (out), 29 Q1 (out), 30 ~{{Q0}} (out), 31 Q0 (out), 32 VCC (power), 33 GND

## SY58032U
designator *  value SY58032U  Reference: U
1:8 LVPECL Fanout Buffer 75fsRMS, QFN-32; ki_keywords: 2.5V/3.3V differential LVPECL LVDS; ki_fp_filters: QFN*1EP*5x5mm*P0.5mm*; Footprint: Package_DFN_QFN:QFN-32-1EP_5x5mm_P0.5mm_EP3.1x3.1mm_ThermalVias; Datasheet: http://ww1.microchip.com/downloads/en/DeviceDoc/sy58032u.pdf; Description_: 1:8 LVPECL Fanout Buffer 75fsRMS, QFN-32
pins: 1 VCC (power), 2 GND (power), 3 IN (in), 4 VT, 5 VREF-AC, 6 ~{{IN}} (in), 7 GND, 8 VCC (power), 9 VCC (power), 10 ~{{Q7}} (oe), 11 Q7 (oe), 12 ~{{Q6}} (oe), 13 Q6 (oe), 14 ~{{Q5}} (oe), 15 Q5 (oe), 16 VCC (power), 17 GND, 18 VCC (power), 19 ~{{Q4}} (oe), 20 Q4 (oe), 21 ~{{Q3}} (oe), 22 Q3 (oe), 23 VCC (power), 24 GND, 25 VCC (power), 26 ~{{Q2}} (oe), 27 Q2 (oe), 28 ~{{Q1}} (oe), 29 Q1 (oe), 30 ~{{Q0}} (oe), 31 Q0 (oe), 32 VCC (power), 33 GND

## SY58033U
designator *  value SY58033U  Reference: U
1:8 400mV LVPECL Fanout Buffer 75fsRMS, QFN-32; ki_keywords: 2.5V/3.3V differential LVPECL LVDS; ki_fp_filters: QFN*1EP*5x5mm*P0.5mm*; Footprint: Package_DFN_QFN:QFN-32-1EP_5x5mm_P0.5mm_EP3.1x3.1mm_ThermalVias; Datasheet: http://ww1.microchip.com/downloads/en/DeviceDoc/sy58033u.pdf; Description_: 1:8 400mV LVPECL Fanout Buffer 75fsRMS, QFN-32
pins: 1 VCC (power), 2 GND (power), 3 IN (in), 4 VT, 5 VREF-AC, 6 ~{{IN}} (in), 7 GND, 8 VCC (power), 9 VCC (power), 10 ~{{Q7}} (oe), 11 Q7 (oe), 12 ~{{Q6}} (oe), 13 Q6 (oe), 14 ~{{Q5}} (oe), 15 Q5 (oe), 16 VCC (power), 17 GND, 18 VCC (power), 19 ~{{Q4}} (oe), 20 Q4 (oe), 21 ~{{Q3}} (oe), 22 Q3 (oe), 23 VCC (power), 24 GND, 25 VCC (power), 26 ~{{Q2}} (oe), 27 Q2 (oe), 28 ~{{Q1}} (oe), 29 Q1 (oe), 30 ~{{Q0}} (oe), 31 Q0 (oe), 32 VCC (power), 33 GND

## TLC555xD
designator *  value TLC555xD  Reference: U
Single LinCMOS Timer, 555 compatible, SOIC-8; ki_keywords: single timer 555; ki_fp_filters: SOIC*3.9x4.9mm*P1.27mm*; Footprint: Package_SO:SOIC-8_3.9x4.9mm_P1.27mm; Datasheet: http://www.ti.com/lit/ds/symlink/tlc555.pdf; Description_: Single LinCMOS Timer, 555 compatible, SOIC-8
pins: 1 GND (power), 2 TR (in), 3 Q (out), 4 R (in), 5 CV (in), 6 THR (in), 7 DIS (in), 8 VCC (power)

## TLC555xP
designator *  value TLC555xP  Reference: U
Single LinCMOS Timer, 555 compatible, PDIP-8; ki_keywords: single timer 555; ki_fp_filters: DIP*W7.62mm*; Footprint: Package_DIP:DIP-8_W7.62mm; Datasheet: http://www.ti.com/lit/ds/symlink/tlc555.pdf; Description_: Single LinCMOS Timer, 555 compatible, PDIP-8
pins: 1 GND (power), 2 TR (in), 3 Q (out), 4 R (in), 5 CV (in), 6 THR (in), 7 DIS (in), 8 VCC (power)

## TLC555xPS
designator *  value TLC555xPS  Reference: U
Single LinCMOS Timer, 555 compatible, VSSOP-8; ki_keywords: single timer 555; ki_fp_filters: *VSSOP*3x3mm*P0.65mm*; Footprint: Package_SO:VSSOP-8_3x3mm_P0.65mm; Datasheet: http://www.ti.com/lit/ds/symlink/tlc555.pdf; Description_: Single LinCMOS Timer, 555 compatible, VSSOP-8
pins: 1 GND (power), 2 TR (in), 3 Q (out), 4 R (in), 5 CV (in), 6 THR (in), 7 DIS (in), 8 VCC (power)

## TLC555xPW
designator *  value TLC555xPW  Reference: U
Single LinCMOS Timer, TSSOP-14; ki_keywords: single timer 555; ki_fp_filters: TSSOP*4.4x5mm*P0.65mm*; Footprint: Package_SO:TSSOP-14_4.4x5mm_P0.65mm; Datasheet: http://www.ti.com/lit/ds/symlink/tlc555.pdf; Description_: Single LinCMOS Timer, TSSOP-14
pins: 1 GND (power), 2 NC (in), 3 TR (in), 4 NC (in), 5 OUT (out), 6 NC (in), 7 RESET (in), 8 CONT (in), 9 NC (in), 10 THRES (in), 11 NC (in), 12 DISCH (in), 13 NC (in), 14 VDD (power)

## TPL5010
designator *  value TPL5010  Reference: U
Timer, Nano Power, Watchdog, 35 nA, 100 ms to 7200 s, VDD 1.8V to 5.5V, Iout max 1mA; ki_keywords: timer watchdog nano wake done; ki_fp_filters: SOT?23*; Footprint: Package_TO_SOT_SMD:SOT-23-6; Datasheet: http://www.ti.com/lit/ds/symlink/tpl5010.pdf; Description_: Timer, Nano Power, Watchdog, 35 nA, 100 ms to 7200 s, VDD 1.8V to 5.5V, Iout max 1mA
pins: 1 VDD (power), 2 GND (power), 3 DELAY/M_RST (in), 4 DONE (in), 5 WAKE (out), 6 ~{{RST}} (oc)

## TPL5110
designator *  value TPL5110  Reference: U
Timer, Nano Power, Active-Low, 35 nA, 100 ms to 7200 s, VDD 1.8V to 5.5V, Iout max 1mA, SOT-23-6; ki_keywords: timer active-low nano wake done; ki_fp_filters: SOT?23*; Footprint: Package_TO_SOT_SMD:SOT-23-6; Datasheet: http://www.ti.com/lit/ds/symlink/tpl5110.pdf; Description_: Timer, Nano Power, Active-Low, 35 nA, 100 ms to 7200 s, VDD 1.8V to 5.5V, Iout max 1mA, SOT-23-6
pins: 1 VDD (power), 2 GND (power), 3 DELAY/M_DRV (in), 4 DONE (in), 5 DRV (out), 6 EN/ONE_SHOT (in)

## TPL5111
designator *  value TPL5111  Reference: U
Timer, Nano Power, Active-High, 35 nA, 100 ms to 7200 s, VDD 1.8V to 5.5V, Iout max 1mA, SOT-23-6; ki_keywords: timer active-high nano wake done; ki_fp_filters: SOT?23*; Footprint: Package_TO_SOT_SMD:SOT-23-6; Datasheet: http://www.ti.com/lit/ds/symlink/tpl5111.pdf; Description_: Timer, Nano Power, Active-High, 35 nA, 100 ms to 7200 s, VDD 1.8V to 5.5V, Iout max 1mA, SOT-23-6
pins: 1 VDD (power), 2 GND (power), 3 DELAY/M_DRV (in), 4 DONE (in), 5 ~{{DRV}} (out), 6 EN/ONE_SHOT (in)